# Altium schematic symbol library powerstream.SchLib: 1 symbol
Pins are listed as number, name and electrical type; pins without a type are passive.

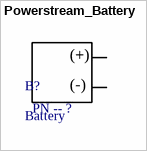
[diagram p0: symbol Powerstream_Battery]

## Powerstream_Battery
designator B?, comment Battery  Note: PN -- ?
Powerstream Lithium Battery
footprint PGEB0054018 (Powerstream 10mAh 3.7V battery 0.8x40x18mm)
footprint PGEB0121212 (Powerstream 10mAh 3.7V battery 2x12x12.5mm)
pins: 1 BAT_NEG, 2 BAT_POS
text: (+); (-)